# Altium footprint library WREL_AD10.PcbLib: 52 footprints (part 4 of 4)
Each footprint in its own frame and in the unit in brackets; x right, y up, seen from the top. Pads: shape width x height; smd on the part's side, far side on the other; paste and mask are expansions set on the pad; w line width, h text height; cw(c..) or ccw(c..) is an arc to the next point about the centre after c.
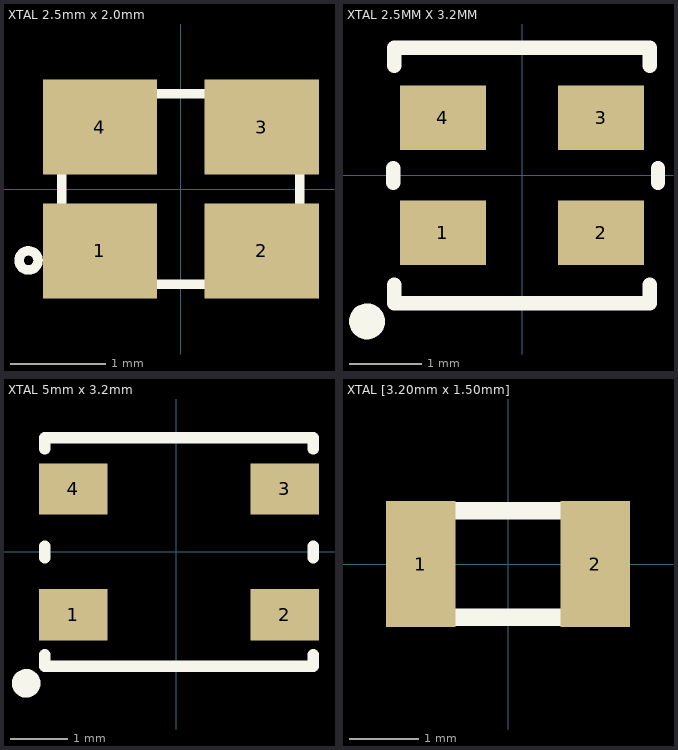
[diagram p3: the footprints below, top view; thin cyan lines are the x and y axes]

## XTAL 2.5mm x 2.0mm [mm] "CRYSTAL, 2.5mm x 2.0mm,  4Pin"
height 0.85
pads (4):
  rect 1.2x1 smd: 1(-0.85,-0.65) 2(0.85,-0.65) 3(0.85,0.65) 4(-0.85,0.65)
Top Overlay:
  circle w0.1: c-1.6,-0.75 r0.1
  lines w0.1: -1.25,-1 -1.25,1 1.25,1 1.25,-1 -1.25,-1

## XTAL 2.5MM X 3.2MM [mm]
pads (4):
  rect 1.2x0.9 smd: 1(-1.1,-0.8) 2(1.1,-0.8) 3(1.1,0.8) 4(-1.1,0.8)
Top Overlay:
  circle w0.25: c-2.157,-2.032 r0.125
  lines w0.2: -1.792,-0.1 -1.792,0.1 ; -1.778,-1.524 -1.778,-1.778 1.778,-1.778 1.778,-1.524 ; -1.778,1.524 -1.778,1.778 1.778,1.778 1.778,1.524 ; 1.892,-0.1 1.892,0.1

## XTAL 5mm x 3.2mm [mm]
pads (4):
  rect 1.2x0.9 smd: 1(-1.8,-1.1) 2(1.9,-1.1) 3(1.9,1.1) 4(-1.8,1.1)
Top Overlay:
  circle w0.25: c-2.625,-2.3 r0.125
  lines w0.2: -2.3,-1.8 -2.3,-2 2.4,-2 2.4,-1.8 ; -2.3,-0.1 -2.3,0.1 ; -2.3,1.8 -2.3,2 2.4,2 2.4,1.8 ; 2.4,-0.1 2.4,0.1

## XTAL [3.20mm x 1.50mm] [mm] "FC-135   crystal - epson eletronics"
height 0.8
pads (2):
  rect 1x1.8 smd: 1(-1.25,0) 2(1.25,0)
Top Overlay:
  lines w0.254: -0.762,-0.762 0.762,-0.762 ; -0.762,0.762 0.762,0.762